# EAGLE library part TBX0104 (library gee_s)
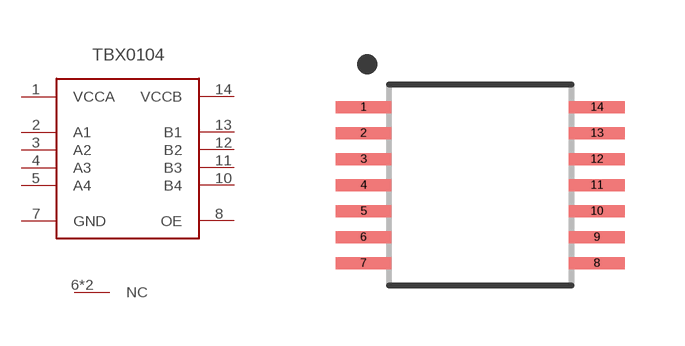
[diagram p26: symbol with the pads of TSSOP-14; footprint TSSOP-14]

Designator prefix -

## TBX0104  [TSSOP-14]
1  VCCA
2  A1
3  A2
4  A3
5  A4
6  NC  nc
7  GND
8  OE
9  NC  nc
10  B4
11  B3
12  B2
13  B1
14  VCCB

## Footprint TSSOP-14 (pad centres in mm)
smd 1.4 x 0.3: 1 -2.918,1.95; 2 -2.918,1.3; 3 -2.918,0.65; 4 -2.918,0; 5 -2.918,-0.65; 6 -2.918,-1.3; 7 -2.918,-1.95; 8 2.918,-1.95; 9 2.918,-1.3; 10 2.918,-0.65; 11 2.918,0; 12 2.918,0.65; 13 2.918,1.3; 14 2.918,1.95